# EAGLE library part 2091-1362 (library con-wago_3.5 mm)
Serie 2091, Federleiste eCOM mit abgewinkelten Lötstiften mit Griffplatte / Series 2091, eCOM pluggable PCB connector with angled solder pins with gripping plate Polzahl / Pole No.: 12 Rastermaß / Pitch: 3.5 mm Bemessungsspannung / Rated Voltage: 160 V Nennstrom / Nominal Current: 10 A Leiterquerschnitt / Conductor Size: 0.2 - 1.5 mm² Anschlusstechnik / Connection Technology: CAGE CLAMP® S Lötstiftlänge: / Solder Pin Length: 3.6 mm Farbe / Color: lichtgrau / light gray Stand: 01.01.2013. Die jeweils aktuellen Daten zu diesem Artikel finden Sie in unserem Produktkatalog, den Sie unter www.wago.com einsehen können. As of: 01/01/2013. Please find the newest data for this article in our product catalogue, which can be viewed under www.wago.com.
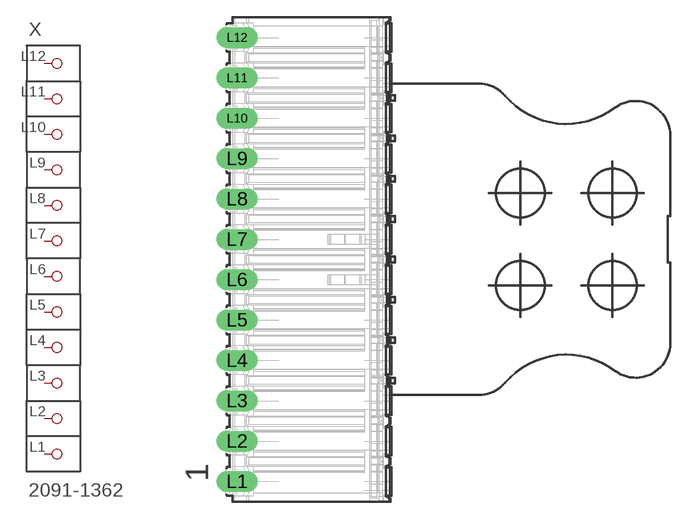
[diagram p31: symbol with the pads of P-2091-1362; footprint P-2091-1362]

Designator prefix X

## 2091-1362  [P-2091-1362]
L1  P1
L2  P2
L3  P3
L4  P4
L5  P5
L6  P6
L7  P7
L8  P8
L9  P9
L10  P10
L11  P11
L12  P12

## Footprint P-2091-1362 (pad centres in mm)
drill 1.2 long: L1 -18.15,-19.25; L2 -18.15,-15.75; L3 -18.15,-12.25; L4 -18.15,-8.75; L5 -18.15,-5.25; L6 -18.15,-1.75; L7 -18.15,1.75; L8 -18.15,5.25; L9 -18.15,8.75; L10 -18.15,12.25; L11 -18.15,15.75; L12 -18.15,19.25